# Altium schematic symbol library IPL1-106-XX-X-D-X.SchLib: 1 symbol
Pins are listed as number, name and electrical type; pins without a type are passive.

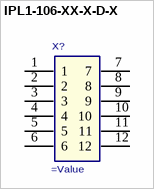
[diagram p0: symbol IPL1-106-XX-X-D-X]

## IPL1-106-XX-X-D-X
designator X?
2.54mm Double Row Terminal Assembly, Right-Angled; MF: SAMTEC; Created: 2018_05_03_AGeiger; Value: =MPN; LCSC Part #: C5295959
footprint IPL1-106-01-L-D-RA-K
footprint IPL1-106-01-L-D-K
footprint IPL1-106-02-L-D-K
pins: 1, 2, 3, 4, 5, 6, 7, 8, 9, 10, 11, 12